# Altium footprint library misc_connectors.PcbLib: 23 footprints (part 1 of 2)
Each footprint in its own frame and in the unit in brackets; x right, y up, seen from the top. Pads: shape width x height; smd on the part's side, far side on the other; paste and mask are expansions set on the pad; w line width, h text height; cw(c..) or ccw(c..) is an arc to the next point about the centre after c.
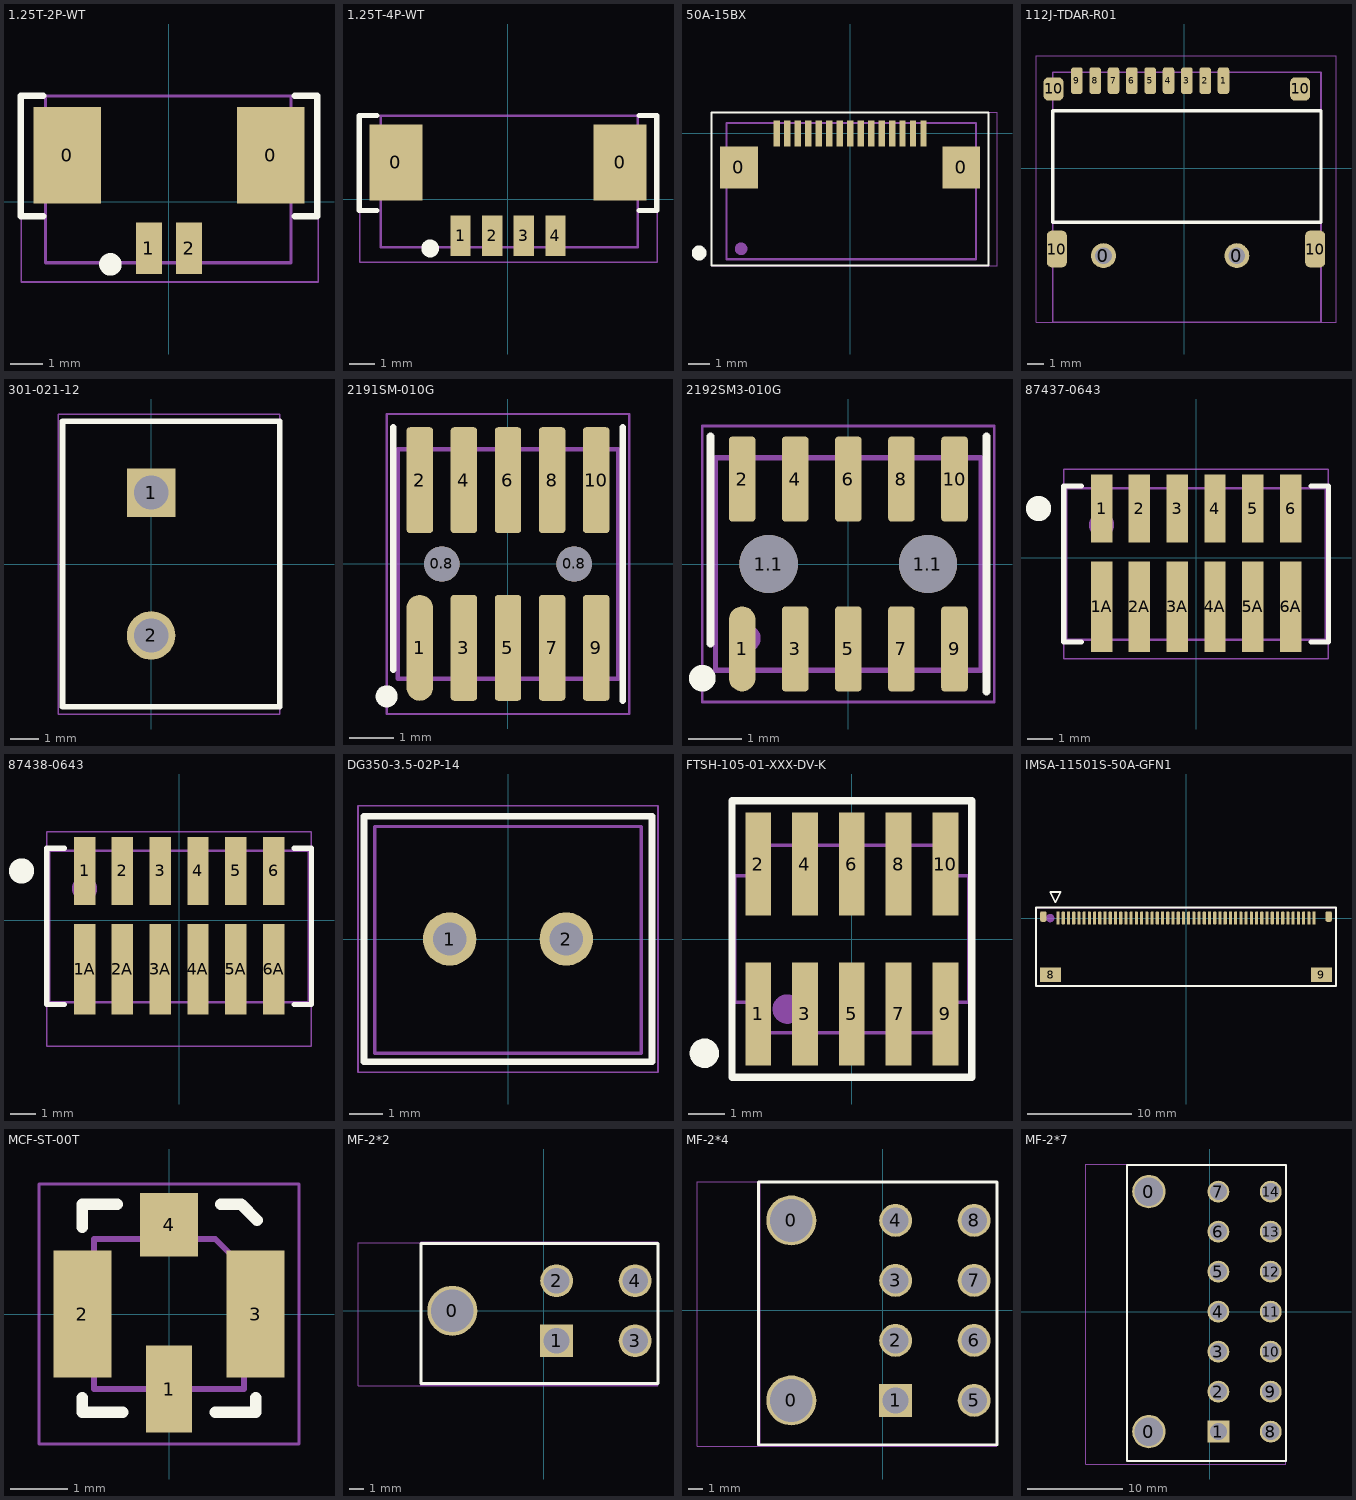
[diagram p0: the footprints below, top view; thin cyan lines are the x and y axes]

## 1.25T-2P-WT [mm]
pads (4):
  rect 2.1x3 smd: 0(-3.175,1.45) 0(3.175,1.45)
  rect 0.8x1.6 smd: 1(-0.625,-1.45) 2(0.625,-1.45)
Top Overlay:
  circle w0.5: c-1.825,-1.95 r0.1
  lines w0.2: -3.925,-0.45 -4.625,-0.45 -4.625,3.3 -3.925,3.3 ; 3.925,-0.45 4.625,-0.45 4.625,3.3 3.925,3.3
Top Assembly:
  lines w0.1: -3.85,-1.9 -3.85,3.3 3.8,3.3 3.8,-1.9 -3.85,-1.9
  text ".Designator" at -4.998,-0.333 h1
Top Courtyard (Mech15):
  lines w0.05: -4.6,-2.5 4.65,-2.5 4.65,3.3 -4.6,3.3 -4.6,-2.5
3D body "532610271.stp": height 3.4, standoff 0, extent -3.825,-1.85 3.825,3.35

## 1.25T-4P-WT [mm]
pads (6):
  rect 2.1x3 smd: 0(-4.425,1.45) 0(4.425,1.45)
  rect 0.8x1.6 smd: 1(-1.875,-1.45) 2(-0.625,-1.45) 3(0.625,-1.45) 4(1.875,-1.45)
Top Overlay:
  circle w0.5: c-3.075,-1.95 r0.1
  lines w0.2: -5.175,-0.45 -5.875,-0.45 -5.875,3.3 -5.175,3.3 ; 5.175,-0.45 5.875,-0.45 5.875,3.3 5.175,3.3
Top Assembly:
  lines w0.1: -5.025,-1.9 5.125,-1.9 5.125,3.3 -5.025,3.3 -5.025,-1.9
  text ".Designator" at -4.998,-0.333 h1
Top Courtyard (Mech15):
  lines w0.05: -5.85,-2.5 -5.85,3.3 5.9,3.3 5.9,-2.5 -5.85,-2.5
3D body "532610471.stp": height 3.4, standoff 0, extent -5.05,-1.9 5.1,3.3

## 50A-15BX [mm]
pads (17):
  rect 1.8x2 smd: 0(-5.3,-1.625) 0(5.3,-1.625)
  rect 0.3x1.25 smd: 1(-3.5,0) 2(-3,0) 3(-2.5,0) 4(-2,0) 5(-1.5,0) 6(-1,0) 7(-0.5,0) 8(0,0) 9(0.5,0) 10(1,0) 11(1.5,0) 12(2,0) 13(2.5,0) 14(3,0) 15(3.5,0)
Top Overlay:
  circle w0.5: c-7.2,-5.7 r0.1
  lines w0.1: -6.6,-6.3 6.6,-6.3 6.6,1 -6.6,1 -6.6,-6.3
Top Assembly:
  circle w0.4: c-5.2,-5.5 r0.1
  lines w0.1: -5.9,-6 6,-6 6,0.5 -5.9,0.5 -5.9,-6
  text ".Designator" at -4.998,-0.333 h1
Top Courtyard (Mech15):
  lines w0.05: -6.6,-6.3 7,-6.3 7,1 -6.6,1 -6.6,-6.3
3D body "Разъем ZIF 0.5 15 pin.STEP": height 2.1, standoff -0.03, extent -5.938,-5.975 5.962,0.475

## 112J-TDAR-R01 [mm]
pads (15):
  round 1.5 hole 1: 0(-4.85,-5.25) 0(3.15,-5.25)
  rrect50% 0.7x1.6 smd: 1(2.35,5.25) 2(1.25,5.25) 3(0.15,5.25) 4(-0.95,5.25) 5(-2.05,5.25) 6(-3.15,5.25) 7(-4.25,5.25) 8(-5.35,5.25) 9(-6.45,5.25)
  rrect50% 1.2x1.4 smd: 10(-7.85,4.75) 10(6.95,4.75)
  rrect50% 1.2x2.2 smd: 10(-7.65,-4.85) 10(7.85,-4.85)
Top Overlay:
  lines w0.2: -7.9,-3.25 8.2,-3.25 8.2,3.45 -7.9,3.45 -7.9,-3.25
Top Assembly:
  lines w0.1: -7.9,-9.25 8.2,-9.25 8.2,5.75 -7.9,5.75 -7.9,-9.25
  text ".Designator" at -4.998,-0.333 h1
Top Courtyard (Mech15):
  lines w0.05: -8.9,-9.25 -8.9,6.75 9.1,6.75 9.1,-9.25 -8.9,-9.25
3D body "112J-TXAR-R_C_1.stp": height 1.9, standoff -0.55, extent -7.9,-9.25 8.2,5.753

## 301-021-12 [mm]
height 8.38
pads (2):
  rect 1.7x1.7 hole 1.2: 1(0,2.5)
  round 1.7 hole 1.2: 2(0,-2.5)
Top Overlay:
  lines w0.2: -3.1,-5 -3.1,5 4.2,5 4.5,5 4.5,4.7 4.5,-5 -3.1,-5
Top Assembly:
  lines w0.1: -3.1,-5 4.5,-5 4.5,5 -3.1,5 -3.1,-5
  text ".Designator" at -4.998,-0.333 h1
Top Courtyard (Mech15):
  lines w0.05: -3.25,-5.25 -3.25,5.25 4.5,5.25 4.5,-5.25 -3.25,-5.25
3D body "User Library-DG301-5_0-2P12.STEP": height 10, standoff -4.16, extent -3.4,-5 4.2,5.6

## 2191SM-010G [mm]
height 2.25
pads (12):
  round 0.8 hole 0.8 unplated: 0.8(-1.5,0) 0.8(1.5,0)
  oval 0.6x2.4 smd: 1(-2,-1.9)
  rrect25% 0.6x2.4 smd: 2(-2,1.9) 3(-1,-1.9) 4(-1,1.9) 5(0,-1.9) 6(0,1.9) 7(1,-1.9) 8(1,1.9) 9(2,-1.9) 10(2,1.9)
Top Overlay:
  circle w0.3: c-2.75,-3 r0.1
  lines w0.15: -2.6,-2.4 -2.6,3.1 ; 2.6,-3.1 2.6,3.1
Top Assembly:
  circle w0.3: c-1.95,-2.1 r0.1
  lines w0.1: -2.5,-2.6 2.5,-2.6 2.5,2.6 -2.5,2.6 -2.5,-2.6
  text ".Designator" at -4.998,-0.333 h1
Top Courtyard (Mech15):
  lines w0.05: -2.75,-3.4 -2.75,3.4 2.75,3.4 2.75,-3.4 -2.75,-3.4

## 2192SM3-010G [mm]
height 2.25
pads (12):
  oval 0.5x1.6 smd: 1(-2,-1.6)
  round 1.1 hole 1.1 unplated: 1.1(-1.5,0) 1.1(1.5,0)
  rrect25% 0.5x1.6 smd: 2(-2,1.6) 3(-1,-1.6) 4(-1,1.6) 5(0,-1.6) 6(0,1.6) 7(1,-1.6) 8(1,1.6) 9(2,-1.6) 10(2,1.6)
Top Overlay:
  circle w0.3: c-2.75,-2.15 r0.1
  lines w0.15: -2.6,-1.5 -2.6,2.4 ; 2.6,-2.4 2.6,2.4
Top Assembly:
  circle w0.3: c-1.9,-1.4 r0.1
  lines w0.1: -2.5,-2 -2.5,2 2.5,2 2.5,-2 -2.5,-2
  text ".Designator" at -4.998,-0.333 h1
Top Courtyard (Mech15):
  lines w0.05: -2.75,-2.6 -2.75,2.6 2.75,2.6 2.75,-2.6 -2.75,-2.6

## 87437-0643 [mm]
pads (12):
  rect 0.85x2.7 smd: 1(-3.75,1.95) 2(-2.25,1.95) 3(-0.75,1.95) 4(0.75,1.95) 5(2.25,1.95) 6(3.75,1.95)
  rect 0.85x3.6 smd: 1A(-3.75,-1.95) 2A(-2.25,-1.95) 3A(-0.75,-1.95) 4A(0.75,-1.95) 5A(2.25,-1.95) 6A(3.75,-1.95)
Top Overlay:
  circle w0.8: c-6.25,1.95 r0.1
  lines w0.2: -4.55,-3.35 -5.25,-3.35 -5.25,2.85 -4.55,2.85 ; 4.55,-3.35 5.25,-3.35 5.25,2.85 4.55,2.85
Top Assembly:
  circle w0.8: c-3.75,1.3 r0.1
  lines w0.1: -5.15,-3.25 5.15,-3.25 5.15,2.75 -5.15,2.75 -5.15,-3.25
  text ".Designator" at -4.998,-0.333 h1
Top Courtyard (Mech15):
  lines w0.05: -5.25,-4 5.25,-4 5.25,3.5 -5.25,3.5 -5.25,-4
3D body "874370643.stp": height 5.77, standoff 0.02, extent -5.1,-3.2 5.2,2.8

## 87438-0643 [mm]
pads (12):
  rect 0.85x2.7 smd: 1(-3.75,1.95) 2(-2.25,1.95) 3(-0.75,1.95) 4(0.75,1.95) 5(2.25,1.95) 6(3.75,1.95)
  rect 0.85x3.6 smd: 1A(-3.75,-1.95) 2A(-2.25,-1.95) 3A(-0.75,-1.95) 4A(0.75,-1.95) 5A(2.25,-1.95) 6A(3.75,-1.95)
Top Overlay:
  circle w0.8: c-6.25,1.95 r0.1
  lines w0.2: -4.55,-3.35 -5.25,-3.35 -5.25,2.85 -4.55,2.85 ; 4.55,-3.35 5.25,-3.35 5.25,2.85 4.55,2.85
Top Assembly:
  circle w0.8: c-3.75,1.25 r0.1
  lines w0.1: -5.15,-3.25 -5.15,2.75 5.15,2.75 5.15,-3.25 -5.15,-3.25
  text ".Designator" at -4.998,-0.333 h1
Top Courtyard (Mech15):
  lines w0.05: -5.25,-5 -5.25,3.5 5.25,3.5 5.25,-5 -5.25,-5
3D body "874380643.stp": height 4.52, standoff 0.01, extent -5.1,-5 5.2,2.75

## DG350-3.5-02P-14 [mm]
pads (2):
  round 1.6 hole 1: 1(-1.75,0) 2(1.75,0)
Top Overlay:
  lines w0.2: -4.318,-3.683 4.318,-3.683 4.318,3.683 -4.318,3.683 -4.318,-3.683
Top Assembly:
  lines w0.1: -4,-3.425 4,-3.425 4,3.375 -4,3.375 -4,-3.425
  text ".Designator" at -4.998,-0.333 h1
Top Courtyard (Mech15):
  lines w0.05: -4.5,-4 4.5,-4 4.5,4 -4.5,4 -4.5,-4
3D body "DG350-3.5-02P-1Y-00A&Z(H).stp": height 8.65, standoff -3.25, extent -4,-3.429 4,3.371

## FTSH-105-01-XXX-DV-K [mm]
pads (10):
  rect 0.7x2.8 smd mask+0.051: 1(-2.54,-2.032) 2(-2.54,2.032) 3(-1.27,-2.032) 4(-1.27,2.032) 5(0,-2.032) 6(0,2.032) 7(1.27,-2.032) 8(1.27,2.032) 9(2.54,-2.032) 10(2.54,2.032)
Top Overlay:
  circle w0.4: c-4,-3.1 r0.2
  lines w0.2: -3.25,-3.75 3.25,-3.75 3.25,3.75 -3.25,3.75 -3.25,-3.75
Top Assembly:
  circle w0.4: c-1.75,-1.9 r0.2
  lines w0.1: -3.175,-1.714 -2.54,-1.714 -2.54,-2.54 2.54,-2.54 2.54,-1.714 3.175,-1.714 3.175,1.714 2.54,1.714 2.54,2.54 -2.54,2.54 -2.54,1.714 -3.175,1.714 -3.175,-1.714
  text ".Designator" at -4.998,-0.333 h1
Top Courtyard (Mech15):
  lines w0.05: -3.25,-3.75 3.25,-3.75 3.25,3.75 -3.25,3.75 -3.25,-3.75
3D body "FTSH-105-01-F-DV-K-TR.stp": height 6.11, standoff -0.01, extent -3.175,-2.921 3.175,2.921

## IMSA-11501S-50A-GFN1 [mm] "FFC FPC, 50pin, 0.5mm"
height 8
pads (54):
  rect 0.3x1.25 smd: 1(-12.25,0)
  rrect50% 0.3x1.25 smd: 2(-11.75,0) 3(-11.25,0) 4(-10.75,0) 5(-10.25,0) 6(-9.75,0) 7(-9.25,0) 8(-8.75,0) 9(-8.25,0) 10(-7.75,0) 11(-7.25,0) 12(-6.75,0) 13(-6.25,0) 14(-5.75,0) 15(-5.25,0) 16(-4.75,0) 17(-4.25,0) 18(-3.75,0) 19(-3.25,0) 20(-2.75,0) 21(-2.25,0) 22(-1.75,0) 23(-1.25,0) 24(-0.75,0) 25(-0.25,0) 26(0.25,0) 27(0.75,0) 28(1.25,0) 29(1.75,0) 30(2.25,0) 31(2.75,0) 32(3.25,0) 33(3.75,0) 34(4.25,0) 35(4.75,0) 36(5.25,0) 37(5.75,0) 38(6.25,0) 39(6.75,0) 40(7.25,0) 41(7.75,0) 42(8.25,0) 43(8.75,0) 44(9.25,0) 45(9.75,0) 46(10.25,0) 47(10.75,0) 48(11.25,0) 49(11.75,0) 50(12.25,0)
  rrect50% 0.6x1 smd: 8(-13.65,0.15) 8(13.65,0.15)
  rect 2x1.4 smd: 8(-12.95,-5.425) 9(12.95,-5.425)
Top Overlay:
  lines w0.15: -13,2.5 -12,2.5 -12.5,1.5 -13,2.5
  lines w0.2: -14.35,-6.5 -14.35,1 14.35,1 14.35,-6.5 -14.35,-6.5
Top Assembly:
  circle w0.4: c-13,0 r0.2
  lines w0.1: -14.356,-6.5 14.351,-6.5 14.351,1 -14.356,1 -14.356,-6.5
  text ".Designator" at -4.998,-0.333 h1
Top Courtyard (Mech15):
  lines w0.05: -14.353,-6.5 14.348,-6.5 14.348,1 -14.353,1 -14.353,-6.5

## MCF-ST-00T [mm]
pads (4):
  rect 0.8x1.5 smd: 1(0,-1.3)
  rect 1x2.2 smd: 2(-1.5,0) 3(1.5,0)
  rect 1x1.1 smd: 4(0,1.55)
Top Overlay:
  lines w0.2: -1.5,-1.45 -1.5,-1.7 -0.8,-1.7 ; -1.5,1.5 -1.5,1.9 -0.9,1.9 ; 0.8,-1.7 1.5,-1.7 1.5,-1.45 ; 0.9,1.9 1.25,1.9 1.525,1.625
Top Assembly:
  lines w0.1: -1.3,-1.3 1.3,-1.3 1.3,0.8 0.8,1.3 -1.3,1.3 -1.3,-1.3
  text ".Designator" at -4.998,-0.333 h1
Top Courtyard (Mech15):
  lines w0.05: -2.25,-2.25 2.25,-2.25 2.25,2.25 -2.25,2.25 -2.25,-2.25

## MF-2*2 [mm]
pads (5):
  round 3.5 hole 3: 0(-6.4,0)
  rect 2.3x2.3 hole 1.8: 1(0.9,-2.1)
  round 2.3 hole 1.8: 2(0.9,2.1) 3(6.4,-2.1) 4(6.4,2.1)
Top Overlay:
  lines w0.2: -8.6,-5.1 -8.6,4.7 8,4.7 8,-5.1 -8.6,-5.1
Top Assembly:
  lines w0.1: -8.6,-5.2 -8.6,4.8 8,4.8 8,-5.2 -8.6,-5.2
  text ".Designator" at -4.998,-0.333 h1
Top Courtyard (Mech15):
  lines w0.05: -13,-5.25 8,-5.25 8,4.75 -13,4.75 -13,-5.25
3D body "4761.stp": height 11.4, standoff -3.6, extent -12.967,-5.2 6.968,4.8

## MF-2*4 [mm]
pads (10):
  round 3.5 hole 3: 0(-6.4,-6.3) 0(-6.4,6.3)
  rect 2.3x2.3 hole 1.8: 1(0.9,-6.3)
  round 2.3 hole 1.8: 2(0.9,-2.1) 3(0.9,2.1) 4(0.9,6.3) 5(6.4,-6.3) 6(6.4,-2.1) 7(6.4,2.1) 8(6.4,6.3)
Top Overlay:
  lines w0.2: -8.7,-9.4 -8.7,9 8,9 8,-9.4 -8.7,-9.4
Top Assembly:
  lines w0.1: -8.6,-9.4 -8.6,9 8,9 8,-9.4 -8.6,-9.4
  text ".Designator" at -4.998,-0.333 h1
Top Courtyard (Mech15):
  lines w0.05: -13,-9.5 8,-9.5 8,9 -13,9 -13,-9.5
3D body "4767.stp": height 11.4, standoff -3.6, extent -12.968,-9.4 6.967,9

## MF-2*7 [mm]
pads (16):
  round 3.5 hole 3: 0(-6.4,-12.6) 0(-6.4,12.6)
  rect 2.3x2.3 hole 1.8: 1(0.9,-12.6)
  round 2.3 hole 1.8: 2(0.9,-8.4) 3(0.9,-4.2) 4(0.9,0) 5(0.9,4.2) 6(0.9,8.4) 7(0.9,12.6) 8(6.4,-12.6) 9(6.4,-8.4) 10(6.4,-4.2) 11(6.4,0) 12(6.4,4.2) 13(6.4,8.4) 14(6.4,12.6)
Top Overlay:
  lines w0.2: -8.7,-15.7 -8.7,15.4 8,15.4 8,-15.7 -8.7,-15.7
Top Assembly:
  lines w0.1: -8.6,-15.7 -8.6,15.4 8,15.4 8,-15.7 -8.6,-15.7
  text ".Designator" at -4.998,-0.333 h1
Top Courtyard (Mech15):
  lines w0.05: -13,-16 8,-16 8,15.5 -13,15.5 -13,-16
3D body "MF-2x7.stp": height 11.4, standoff -3.6, extent -13,-15.7 6.935,15.3